# EAGLE library part CXA2075M (library 07-Retrocomputing)
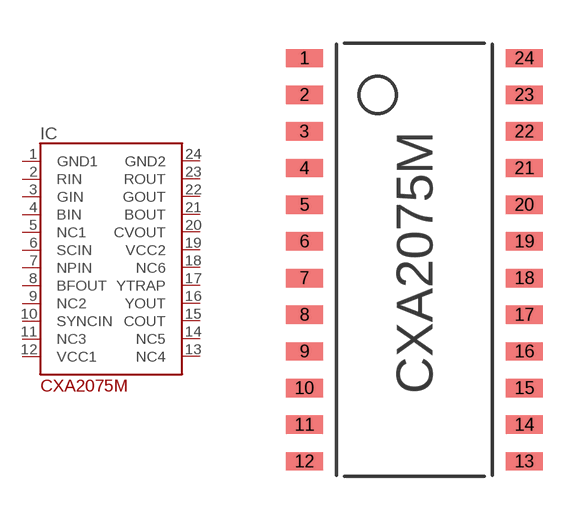
[diagram p19: symbol with the pads of CXA2075M; footprint CXA2075M]

Designator prefix IC

## CXA2075M  [CXA2075M]
1  GND1
2  RIN
3  GIN
4  BIN
5  NC1
6  SCIN
7  NPIN
8  BFOUT
9  NC2
10  SYNCIN
11  NC3
12  VCC1
13  NC4
14  NC5
15  COUT
16  YOUT
17  YTRAP
18  NC6
19  VCC2
20  CVOUT
21  BOUT
22  GOUT
23  ROUT
24  GND2

## Footprint CXA2075M (pad centres in mm)
smd 1.27 x 0.635: 1 -3.81,6.985; 2 -3.81,5.715; 3 -3.81,4.445; 4 -3.81,3.175; 5 -3.81,1.905; 6 -3.81,0.635; 7 -3.81,-0.635; 8 -3.81,-1.905; 9 -3.81,-3.175; 10 -3.81,-4.445; 11 -3.81,-5.715; 12 -3.81,-6.985; 13 3.81,-6.985; 14 3.81,-5.715; 15 3.81,-4.445; 16 3.81,-3.175; 17 3.81,-1.905; 18 3.81,-0.635; 19 3.81,0.635; 20 3.81,1.905; 21 3.81,3.175; 22 3.81,4.445; 23 3.81,5.715; 24 3.81,6.985